# Altium schematic symbol library WM7622CT-ND.SchLib: 1 symbol
Pins are listed as number, name and electrical type; pins without a type are passive.

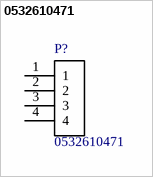
[diagram p0: symbol 0532610471]

## 0532610471
designator P?
Conn Shrouded Header HDR 4 POS 1.25mm Solder RA SMD PicoBladeâ„¢ Embossed T/R; MF: Molex, LLC; Availability: Unavailable; MP: 0532610471; SnapEDA_Link: https://www.snapeda.com/parts/0532610471/Molex%2C%20LLC/view-part/?ref=snap; Price: None; Package: None; Value: *
footprint MOLEX_0532610471
pins: 1, 2, 3, 4